# Altium footprint library B2B-XH-A.PcbLib: 1 footprints
Each footprint in its own frame and in the unit in brackets; x right, y up, seen from the top. Pads: shape width x height; smd on the part's side, far side on the other; paste and mask are expansions set on the pad; w line width, h text height; cw(c..) or ccw(c..) is an arc to the next point about the centre after c.
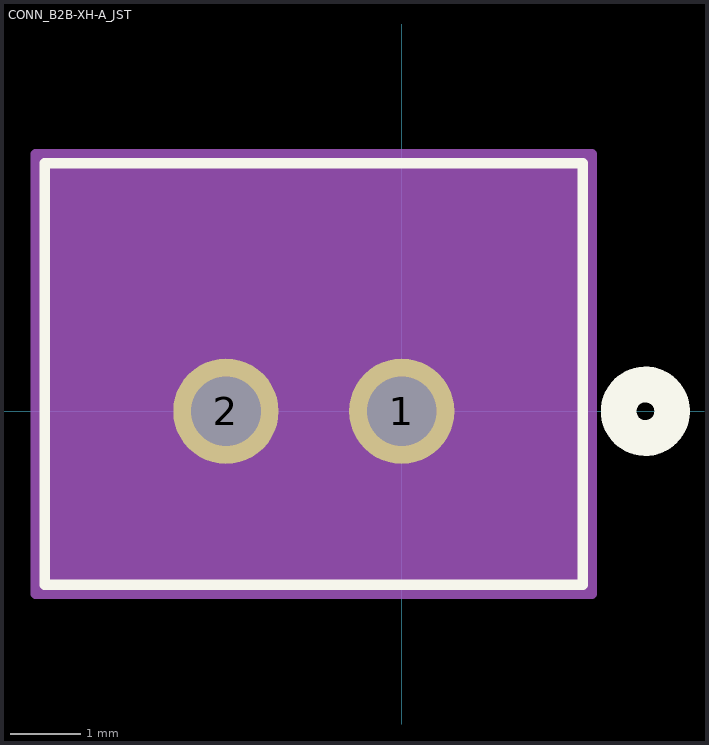
[diagram p0: the footprint, top view; thin cyan lines are the x and y axes]

## CONN_B2B-XH-A_JST [mil]
pads (2):
  round 59 hole 39 paste-29.5 mask+0: 1(0,0) 2(-98.43,0)
Top Overlay:
  circle w20: c136.46,0 r15
  lines w6: -199.88,-97.14 101.46,-97.14 101.46,138.86 -199.88,138.86 -199.88,-97.14
  text ".Designator" at -186.71,-25 h50
Bottom Overlay:
  circle w20: c136.46,0 r15
Mechanical 13:
  circle w20: c0,0 r15
  lines w1: -194.88,-92.14 96.46,-92.14 96.46,133.86 -194.88,133.86 -194.88,-92.14
  text ".Designator" at -186.71,-25 h50
Mechanical 15:
  region: 106.46,143.86 -204.88,143.86 -204.88,-102.14 106.46,-102.14
  lines w6: -204.88,-102.14 -204.88,143.86 106.46,143.86 106.46,-102.14 -204.88,-102.14